# Altium footprint library RESM11569X253NSHNT.PcbLib: 1 footprints
Each footprint in its own frame and in the unit in brackets; x right, y up, seen from the top. Pads: shape width x height; smd on the part's side, far side on the other; paste and mask are expansions set on the pad; w line width, h text height; cw(c..) or ccw(c..) is an arc to the next point about the centre after c.
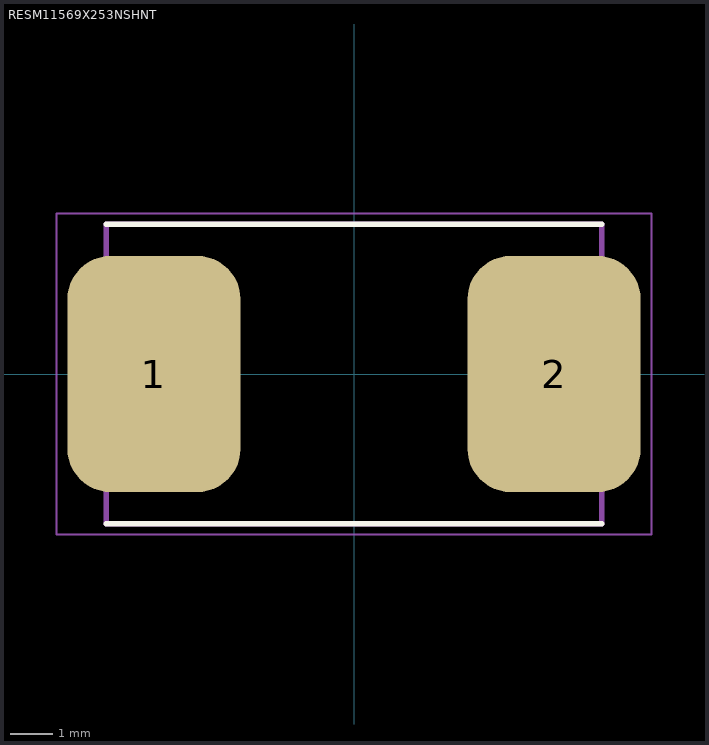
[diagram p0: the footprint, top view; thin cyan lines are the x and y axes]

## RESM11569X253NSHNT [mm]
pads (2):
  rrect50% 4.04x5.51 smd: 1(-4.665,0) 2(4.665,0)
Top Overlay:
  lines w0.127: -5.78,-3.49 5.78,-3.49 ; -5.78,3.49 5.78,3.49
Assembly Top:
  lines w0.127: -5.78,-3.49 -5.78,3.49 5.78,3.49 5.78,-3.49 -5.78,-3.49
Top Courtyard:
  lines w0.05: -6.935,-3.74 -6.935,3.74 6.935,3.74 6.935,-3.74 -6.935,-3.74